# Altium schematic symbol library Microver.SchLib: 988 symbols (part 12 of 17)
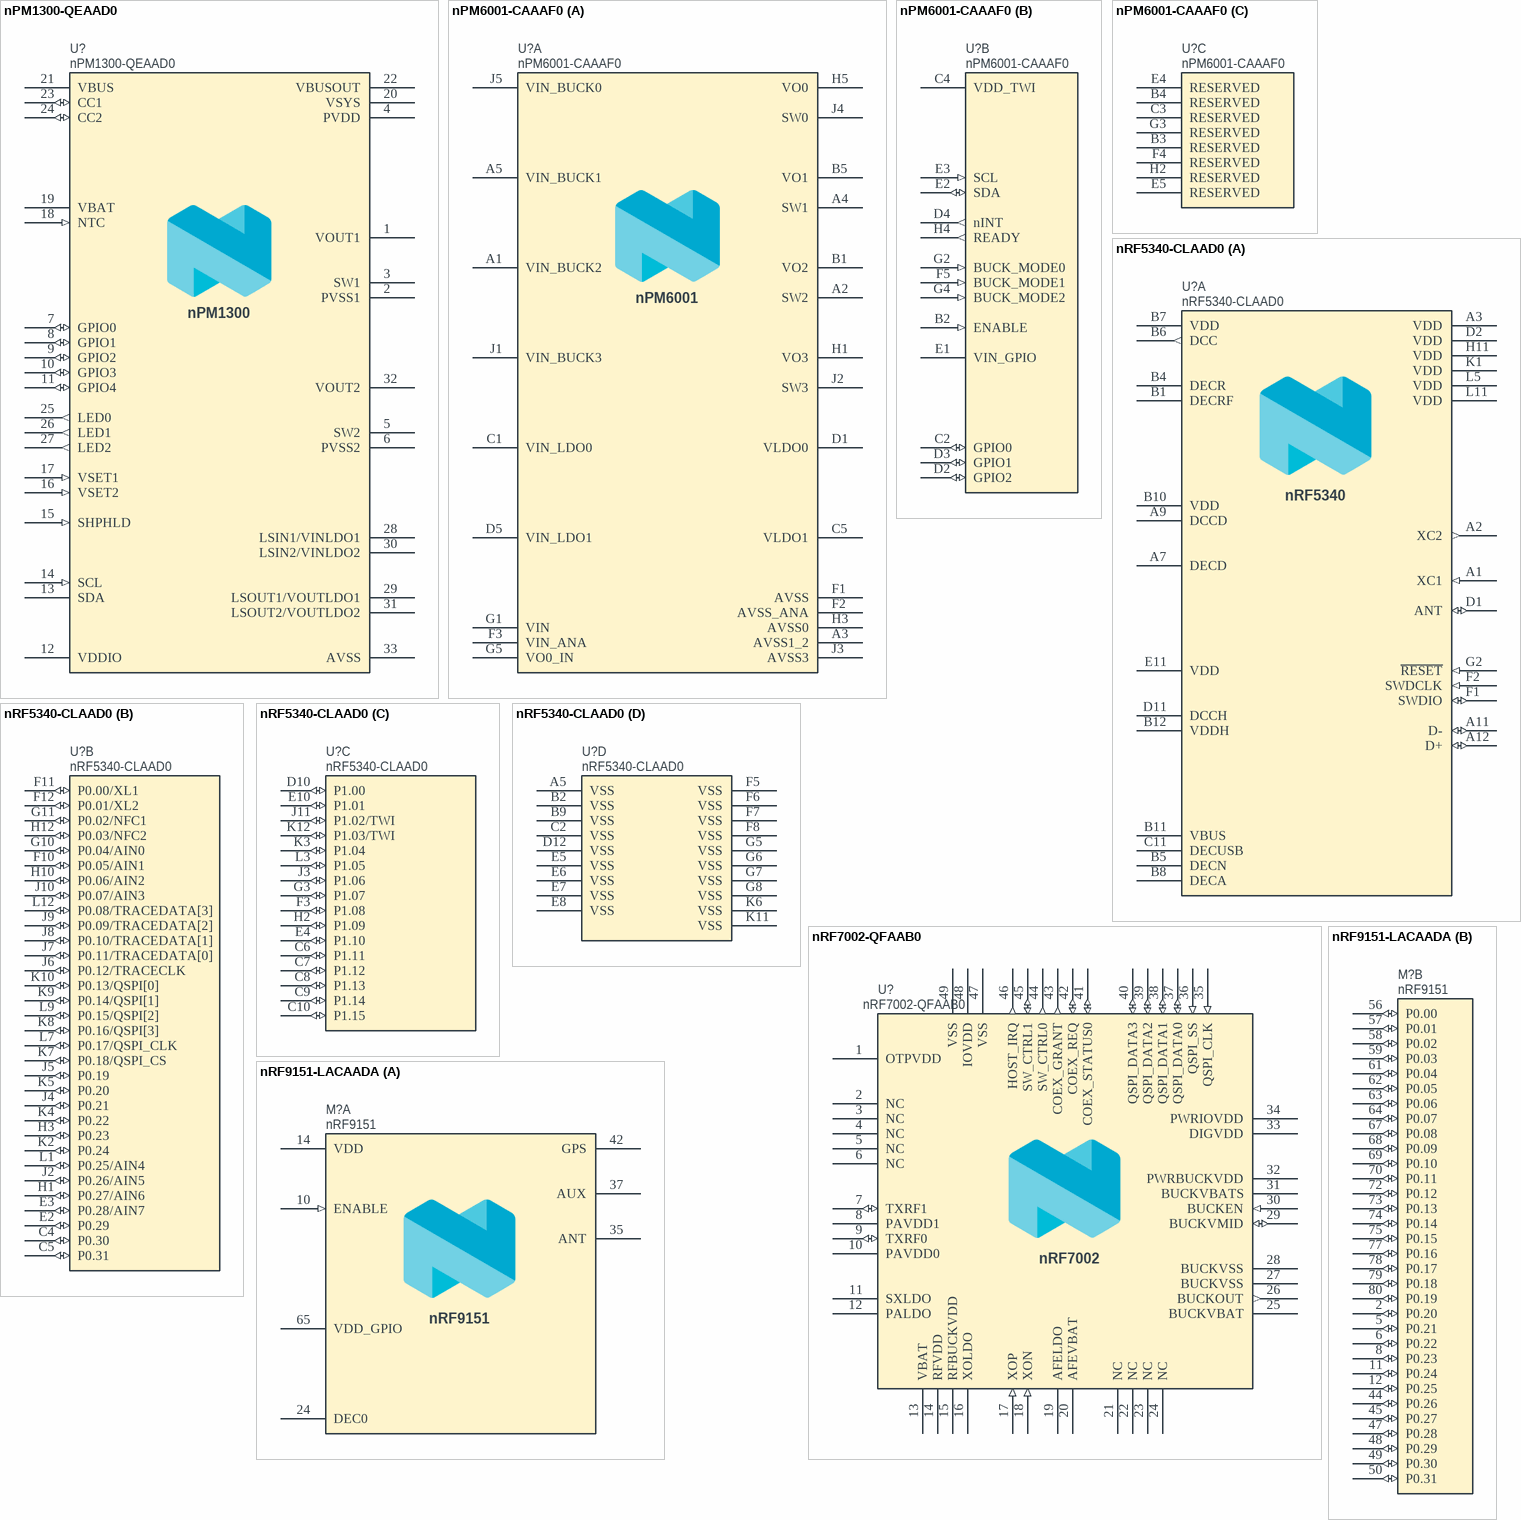
[diagram p40: symbols nPM1300-QEAAD0 to nRF9151-LACAADA]

## nRF5340-CLAAD0
designator U?
Multi-protocol Bluetooth Low Energy, IEEE 802.15.4, ANT and 2.4GHz proprietary system-on-chip; Manufacturer: Nordic Semiconductor; Part number NEMS: 102000319; Pad Count: 95; Note: N.A.; Component Status: Active; Part Number: nRF5340-CLAAD0; Footprint Doc: WLCSP-95; Value: nRF5340-CLAAD0; Component Class: Nordic_Devices; Author: rubr; PartId: 102000319; Manufacturer Part Number: nRF5340-CLAAD0; ComponentLink1URL: N.A.; ComponentLink1Description: Datasheet; ComponentLink2URL: N.A.; ComponentLink2Description: Supplier link; HelpURL: N.A.; LatestRevisionDate: 2024-01-22; Published: 2024-01-22; Supplier 1: Nordic Semiconductor; Supplier Part Number 1: nRF5340-CLAAD0; Supplier 2: N.A.; Supplier Part Number 2: N.A.; Artikkelnr Noca: N.A.; Part number IPS: N.A.; Part number Norautron: N.A.
footprint BGA95C35P12X11_437X397X50
part A pins: A1 XC1 (in), A2 XC2 (out), A3 VDD (power), A7 DECD (power), A9 DCCD (power), A11 D- (io), A12 D+ (io), B1 DECRF (power), B4 DECR (power), B5 DECN (power), B6 DCC (out), B7 VDD (power), B8 DECA (power), B10 VDD (power), B11 VBUS (power), B12 VDDH (power), C11 DECUSB (power), D1 ANT (io), D2 VDD (power), D11 DCCH (power), E11 VDD (power), F1 SWDIO (io), F2 SWDCLK (in), G2 ~{RESET} (in), H11 VDD (power), K1 VDD (power), L5 VDD (power), L11 VDD (power)
part B pins: C4 P0.30 (io), C5 P0.31 (io), E2 P0.29 (io), E3 P0.28/AIN7 (io), F10 P0.05/AIN1 (io), F11 P0.00/XL1 (io), F12 P0.01/XL2 (io), G10 P0.04/AIN0 (io), G11 P0.02/NFC1 (io), H1 P0.27/AIN6 (io), H3 P0.23 (io), H10 P0.06/AIN2 (io), H12 P0.03/NFC2 (io), J2 P0.26/AIN5 (io), J4 P0.21 (io), J5 P0.19 (io), J6 P0.12/TRACECLK (io), J7 P0.11/TRACEDATA[0] (io), J8 P0.10/TRACEDATA[1] (io), J9 P0.09/TRACEDATA[2] (io), J10 P0.07/AIN3 (io), K2 P0.24 (io), K4 P0.22 (io), K5 P0.20 (io), K7 P0.18/QSPI_CS (io), K8 P0.16/QSPI[3] (io), K9 P0.14/QSPI[1] (io), K10 P0.13/QSPI[0] (io), L1 P0.25/AIN4 (io), L7 P0.17/QSPI_CLK (io), L9 P0.15/QSPI[2] (io), L12 P0.08/TRACEDATA[3] (io)
part C pins: C6 P1.11 (io), C7 P1.12 (io), C8 P1.13 (io), C9 P1.14 (io), C10 P1.15 (io), D10 P1.00 (io), E4 P1.10 (io), E10 P1.01 (io), F3 P1.08 (io), G3 P1.07 (io), H2 P1.09 (io), J3 P1.06 (io), J11 P1.02/TWI (io), K3 P1.04 (io), K12 P1.03/TWI (io), L3 P1.05 (io)
part D pins: A5 VSS (power), B2 VSS (power), B9 VSS (power), C2 VSS (power), D12 VSS (power), E5 VSS (power), E6 VSS (power), E7 VSS (power), E8 VSS (power), F5 VSS (power), F6 VSS (power), F7 VSS (power), F8 VSS (power), G5 VSS (power), G6 VSS (power), G7 VSS (power), G8 VSS (power), K6 VSS (power), K11 VSS (power)
part A text: nRF5340

## nRF7002-QFAAB0
designator U?
Wi-fi Dual Band Companion chip; Manufacturer: Nordic Semiconductor; Part number NEMS: 102000276; Pad Count: 49; Note: N.A.; Component Status: Active; Part Number: nRF7002-QFAAB0; Component Class: Nordic_Devices; Author: hany; Manufacturer Part Number: nRF7002-QFAAB0; ComponentLink1URL: N.A.; ComponentLink1Description: Datasheet; ComponentLink2URL: N.A.; ComponentLink2Description: Supplier link; HelpURL: N.A.; Footprint Doc: QFN-48; LatestRevisionDate: 2023-01-11; Published: 2023-01-11; Value: nRF7002-QFAA; Supplier 1: Nordic Semiconductor; Supplier Part Number 1: nRF7002-QFAAB0; Supplier 2: N.A.; Supplier Part Number 2: N.A.; Artikkelnr Noca: N.A.; Part number IPS: N.A.; Part number Norautron: N.A.; PartId: 102000276
footprint QFN40P600X600X60-48N
pins: 1 OTPVDD (power) "OTP write mode supply,  (2.25-2.75V)", 2 NC, 3 NC, 4 NC, 5 NC, 6 NC, 7 TXRF1 (io) "RF INOUT ,", 8 PAVDD1 (power) "Supply ,  (3.3V)", 9 TXRF0 (io) "RF INOUT ,", 10 PAVDD0 (power) "Supply ,  (3.3V)", 11 SXLDO (power) "Supply ,  (1.2V)", 12 PALDO (power) "Supply ,  (3.3V)", 13 VBAT (power) "Supply ,  (2.5-4.5V)", 14 RFVDD (power) "Supply ,  (1.8V)", 15 RFBUCKVDD (power) "Supply ,  (1.5V)", 16 XOLDO (power) "Supply ,  (1.2V)", 17 XOP (in) "40MHz crystal ,", 18 XON (in) "40MHz crystal ,", 19 AFELDO (power) "Supply ,  (1.8V)", 20 AFEVBAT (power) "Supply ,  (2.5-4.5V)", 21 NC, 22 NC, 23 NC, 24 NC, 25 BUCKVBAT (power) "Supply ,  (2.5-4.5V)", 26 BUCKOUT (out) "DCDC output", 27 BUCKVSS (power) "DCDC GND", 28 BUCKVSS (power) "DCDC GND", 29 BUCKVMID (io) "Voltage reference decoupling pin ,", 30 BUCKEN (in) "PWR IP enable pin ,", 31 BUCKVBATS (power) "Supply ,  (2.5-4.5V)", 32 PWRBUCKVDD (power) "Supply ,  (1.5V)", 33 DIGVDD (power) "Supply ,  (1.1V)", 34 PWRIOVDD (power) "internal IO supply, may be used for OTP read,  (1.8-3.3 V)", 35 QSPI_CLK (in) "QSPI Clock", 36 QSPI_SS (in) "QSPI  Slave select", 37 QSPI_DATA0 (io) "QSPI data 0/MOSI", 38 QSPI_DATA1 (io) "QSPI data 1/MISO", 39 QSPI_DATA2 (io) "QSPI data 2/NC", 40 QSPI_DATA3 (io) "QSPI data 3/NC", 41 COEX_STATUS0 (io) "Coex interface, DIGMON1 (O) / GPIO1 (O)", 42 COEX_REQ (io) "Coex interface, DIGMON0 (O) / GPIO0 (O)", 43 COEX_GRANT (out) "Coex interface, GPIO2 (O)", 44 SW_CTRL0 (out) "external switch control , GPIO3 (O)", 45 SW_CTRL1 (io) "external switch control , GPIO4 (O) / BT_COEX_STATUS1 (I)", 46 HOST_IRQ (out) "Host processor interrupt request , GPIO5 (O)", 47 VSS "Connect to GND", 48 IOVDD (power) "IO supply ,  (1.8-3.3 V)", 49 VSS (power) "Center Pad"
text: nRF7002

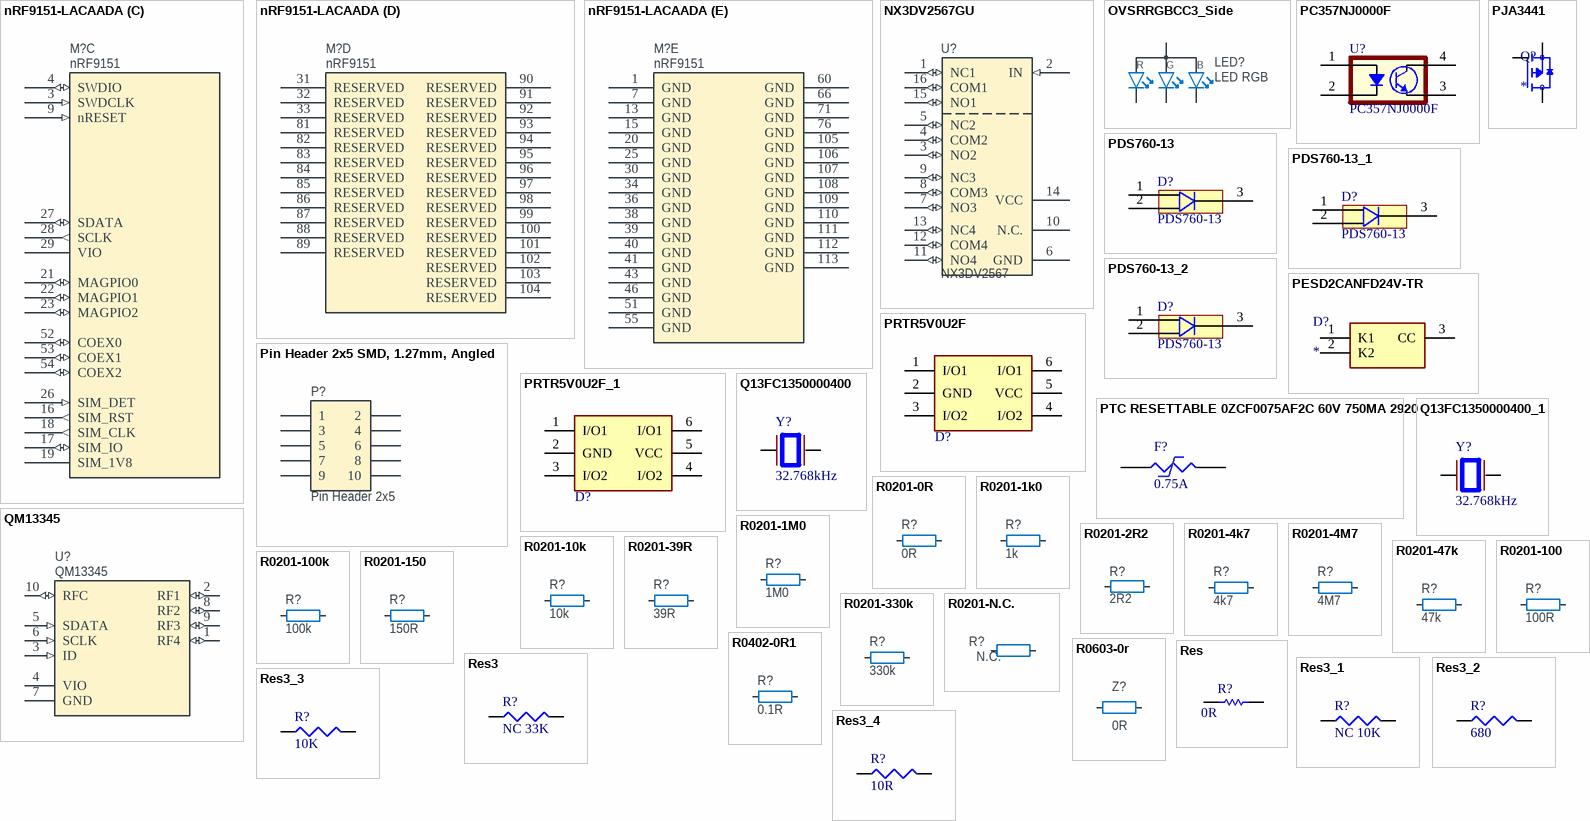
[diagram p22: symbols nRF9151-LACAADA to Res3_4]

## nRF9151-LACAADA
designator M?, comment nRF9151
Low power System-in-Package with integrated LTE-M/NB-IoT modem and GPS; Part Number: nRF9151-LACAADA; Manufacturer: Nordic Semiconductor; Part number NEMS: 102000324; Component Status: Active; Pad Count: 113; Value: nRF9151-LACAADA; Note: N.A.; PartId: 102000324; Component Class: Nordic_Devices; Author: kod1; Manufacturer Part Number: nRF9151-LACAADA; ComponentLink1URL: N.A.; ComponentLink1Description: Datasheet; ComponentLink2URL: N.A.; ComponentLink2Description: Supplier link; HelpURL: N.A.; LatestRevisionDate: 2024-04-02; Published: 2024-03-25; Footprint Doc: LGA-113; Supplier 1: Nordic Semiconductor; Supplier Part Number 1: nRF9151-LACAADA; Supplier 2: N.A.; Supplier Part Number 2: N.A.; Artikkelnr Noca: N.A.; Part number IPS: N.A.; Part number Norautron: N.A.
footprint LGA50P1210X1110X130-113N - 98A0113SP002-O01
part A pins: 10 ENABLE (in), 14 VDD (power), 24 DEC0, 35 ANT, 37 AUX, 42 GPS, 65 VDD_GPIO (power)
part B pins: 2 P0.20 (io), 5 P0.21 (io), 6 P0.22 (io), 8 P0.23 (io), 11 P0.24 (io), 12 P0.25 (io), 44 P0.26 (io), 45 P0.27 (io), 47 P0.28 (io), 48 P0.29 (io), 49 P0.30 (io), 50 P0.31 (io), 56 P0.00 (io), 57 P0.01 (io), 58 P0.02 (io), 59 P0.03 (io), 61 P0.04 (io), 62 P0.05 (io), 63 P0.06 (io), 64 P0.07 (io), 67 P0.08 (io), 68 P0.09 (io), 69 P0.10 (io), 70 P0.11 (io), 72 P0.12 (io), 73 P0.13 (io), 74 P0.14 (io), 75 P0.15 (io), 77 P0.16 (io), 78 P0.17 (io), 79 P0.18 (io), 80 P0.19 (io)
part C pins: 3 SWDCLK (in), 4 SWDIO (io), 9 nRESET (in), 16 SIM_RST (out), 17 SIM_IO (io), 18 SIM_CLK (out), 19 SIM_1V8 (power), 21 MAGPIO0 (io), 22 MAGPIO1 (io), 23 MAGPIO2 (io), 26 SIM_DET (in), 27 SDATA (io), 28 SCLK (out), 29 VIO, 52 COEX0 (io), 53 COEX1 (io), 54 COEX2 (io)
part D pins: 31 RESERVED, 32 RESERVED, 33 RESERVED, 81 RESERVED, 82 RESERVED, 83 RESERVED, 84 RESERVED, 85 RESERVED, 86 RESERVED, 87 RESERVED, 88 RESERVED, 89 RESERVED, 90 RESERVED, 91 RESERVED, 92 RESERVED, 93 RESERVED, 94 RESERVED, 95 RESERVED, 96 RESERVED, 97 RESERVED, 98 RESERVED, 99 RESERVED, 100 RESERVED, 101 RESERVED, 102 RESERVED, 103 RESERVED, 104 RESERVED
part E pins: 1 GND, 7 GND, 13 GND, 15 GND, 20 GND, 25 GND, 30 GND, 34 GND, 36 GND, 38 GND, 39 GND, 40 GND, 41 GND, 43 GND, 46 GND, 51 GND, 55 GND, 60 GND, 66 GND, 71 GND, 76 GND, 105 GND, 106 GND, 107 GND, 108 GND, 109 GND, 110 GND, 111 GND, 112 GND, 113 GND

## NX3DV2567GU
designator U?, comment NX3DV2567
Low-ohmic four-pole double-throw analog switch; Part Number: NX3DV2567GU; Manufacturer: NXP Semiconductors; Part number IPS: 00000007816; Part number NEMS: 101900290; Note: N.A.; Artikkelnr Noca: 15079317; Pad Count: 16; Component Status: Active; Manufacturer Part Number: NX3DV2567GU; Footprint Doc: XQFN-16; LatestRevisionDate: 2015-02-17; Published: 2015-02-17; Value: NX3DV2567; ComponentLink1URL: N.A.; ComponentLink1Description: Datasheet; ComponentLink2URL: N.A.; ComponentLink2Description: Supplier link; HelpURL: http://www.nxp.com/documents/data_sheet/NX3DV2567.pdf; Supplier 1: Digi-Key; Supplier Part Number 1: 568-5206-1-ND; Supplier 2: Mouser; Supplier Part Number 2: 771-NX3DV2567GU115; PartId: 101900290; Component Class: Misc_ICs; Author: rsk; Part number Norautron: N.A.
footprint XQFN40P180X260X50-16N
pins: 1 NC1 (io), 2 IN (in), 3 NO2 (io), 4 COM2 (io), 5 NC2 (io), 6 GND (power), 7 NO3 (io), 8 COM3 (io), 9 NC3 (io), 10 N.C., 11 NO4 (io), 12 COM4 (io), 13 NC4 (io), 14 VCC (power), 15 NO1 (io), 16 COM1 (io)
3 alternate drawings of the same symbol

## OVSRRGBCC3_Side
designator LED?, comment LED RGB
Optek, Side mounted RGB 1204 SMD LED; Part Number: OVSRRGBCC3_Side; Manufacturer Part Number: OVSRRGBCC3; Part number NEMS: 101400026; Pad Count: 4; Artikkelnr Noca: N.A.; Component Status: Active; PartId: 101400026; Component Class: Optoelectronics; Author: rsk; Manufacturer: Optek; ComponentLink1URL: http://www.ttelectronics.com/sites/default/files/download-files/Datasheet_OVSRRGBCC3%20Issue%20G.pdf; ComponentLink1Description: Datasheet; ComponentLink2URL: https://www.digikey.no/product-detail/en/tt-electronics-optek-technology/OVSRRGBCC3TM/365-1981-1-ND/5147364; ComponentLink2Description: Supplier link; HelpURL: http://no.farnell.com/optek-technology/ovsrrgbcc3tm/led-dome-rgb-smd/dp/2428398?CMP=GRHB-OCTOPART; Footprint Doc: 1204; LatestRevisionDate: 2018-07-23; Published: 2009-09-11; Value: LED RGB; Note: Side mounted; Supplier 1: Digi-Key; Supplier Part Number 1: 365-1410-1-ND; Supplier 2: Farnell; Supplier Part Number 2: 167-8707; Part number IPS: N.A.; Part number Norautron: N.A.
footprint OVSRRGBCC3_Side
pins: 1 C_RED, 2 C_GREEN, 3 C_BLUE, 4 A
text: R; G; B

## PC357NJ0000F
designator U?
Manufacturer: Socle Technology; Supplier 1: Digi-Key; Manufacturer Part Number: PC357NJ0000F; RoHS: No; Stock 1: 22388; Pricing 1: 1=0,83000, 10=0,53800, 100=0,35270, 1000=0,27841 (USD); Supplier Part Number 1: 1855-1023-1-ND
footprint SOIC_1TJ00F_SHP
pins: 1, 2, 3, 4

## PDS760-13
designator D?, comment Manufacturer Part Number: PDS760-13  (hidden comment: DIODE SCHOTTKY 60V 7A POWERDI5)
Diode 60 V 7A Surface Mount PowerDI™ 5; Order Code: Digi: PDS760DITR-ND; LCSC Manufacturer Part Number: PDS760-13; LCSC Part Number: C96113
footprint POWERDI5
pins: 1 LEFT_PIN, 2 RIGHT_PIN, 3 BOTTOMSIDE_HEAT_SINK

## PDS760-13_1
designator D?, comment Manufacturer Part Number: PDS760-13  (hidden comment: DIODE SCHOTTKY 60V 7A POWERDI5)
Diode 60 V 7A Surface Mount PowerDI™ 5; Order Code: Digi: PDS760DITR-ND; LCSC Manufacturer Part Number: PDS760-13; LCSC Part Number: C96113
footprint POWERDI5
pins: 1 LEFT_PIN, 2 RIGHT_PIN, 3 BOTTOMSIDE_HEAT_SINK

## PDS760-13_2
designator D?, comment Manufacturer Part Number: PDS760-13  (hidden comment: DIODE SCHOTTKY 60V 7A POWERDI5)
Diode 60 V 7A Surface Mount PowerDI™ 5; Order Code: Digi: PDS760DITR-ND; LCSC Manufacturer Part Number: PDS760-13; LCSC Part Number: C96113
footprint POWERDI5
pins: 1 LEFT_PIN, 2 RIGHT_PIN, 3 BOTTOMSIDE_HEAT_SINK

## PESD2CANFD24V-TR
designator D?
TVS Diode (Bi-directional); Manufacturer_Name: Nexperia; Manufacturer_Part_Number: PESD2CANFD24V-TR; Datasheet Link: https://assets.nexperia.com/documents/data-sheet/PESD2CANFD24V-T.pdf; Height: 1.1mm; Mouser Part Number: 771-PESD2CANFD24V-TR; Mouser Price/Stock: https://www.mouser.co.uk/ProductDetail/Nexperia/PESD2CANFD24V-TR?qs=xZ%2FP%252Ba9zWqbW0qDIUI%252BQ%2FA%3D%3D; Arrow Part Number: PESD2CANFD24V-TR; Arrow Price/Stock: https://www.arrow.com/en/products/pesd2canfd24v-tr/nexperia?region=nac
footprint SOT95P230X110-3N
pins: 1 K1, 2 K2, 3 CC

## Pin Header 2x5 SMD, 1.27mm, Angled
designator P?, comment Pin Header 2x5
Pin Header 2x5, 1.27mm (50mil); Part Number: Pin Header 2x5 SMD, 1.27mm, Angled; Manufacturer: WCON; Manufacturer Part Number: 1325B-1205S0Z080CR04; Part number NEMS: 100500257; Note: (Replaced 1325B-1205S0Z080CR02); Artikkelnr Noca: N.A.; Pad Count: 10; Component Status: Active; System: Connector; LatestRevisionDate: 2024-02-02; Published: 2014-01-22; Value: Pin Header 2x5; Footprint Doc: HDR_2x5-SMD-1.27mm-ANG; Part number IPS: N.A.; ComponentLink1URL: N.A.; ComponentLink1Description: Datasheet; ComponentLink2URL: N.A.; ComponentLink2Description: Supplier link; HelpURL: \\hizz\pro\app9717\Datasheet\connectors\W-CON\1325B-12XXXXZXXXCXXX.pdf; Supplier 1: Cabcon; Supplier Part Number 1: 1325B-1205S0Z080CR04; Supplier 2: N.A.; Supplier Part Number 2: N.A.; Author: rsk; Component Class: Connectors; PartId: 100500257; Part number Norautron: N.A.
footprint HDR_2x5-SMD-1.27mm-ANG
pins: 1, 2, 3, 4, 5, 6, 7, 8, 9, 10

## PJA3441
designator Q?
P-Channel 20 V 1.5A (Ta) 350mW (Ta) Surface Mount SOT-323; MF: Diodes Inc.; MP: DMP2160UW-7; Value: *; Check_prices: https://www.snapeda.com/parts/DMP2160UW-7/Diodes+Inc./view-part/?ref=eda; Availability: In Stock; Price: None; Package: SOT-323 Diodes Inc.; Purchase-URL: https://pricing.snapeda.com/search/part/DMP2160UW-7/?ref=eda; SnapEDA_Link: https://www.snapeda.com/parts/DMP2160UW-7/Diodes+Inc./view-part/?ref=snap
footprint TRANS_DMP2160UW-7
pins: 1 G, 2 S, 3 D

## PRTR5V0U2F
designator D?, comment SON-6(1x1.5) ESD Protection Devices ROHS  (value not drawn)
Manufacturer Part Number: PRTR5V0U2F; Order Code: LCSC: C2937001; LCSC Manufacturer Part Number: PRTR5V0U2F; LCSC Part Number: C2937001
footprint Nexperia_SOT886_MFG
pins: 1 I/O1, 2 GND (power), 3 I/O2, 4 I/O2, 5 VCC (power), 6 I/O1

## PRTR5V0U2F_1
designator D?, comment SON-6(1x1.5) ESD Protection Devices ROHS  (value not drawn)
Manufacturer Part Number: PRTR5V0U2F; Order Code: LCSC: C2937001; LCSC Manufacturer Part Number: PRTR5V0U2F; LCSC Part Number: C2937001
footprint Nexperia_SOT886_MFG
pins: 1 I/O1, 2 GND (power), 3 I/O2, 4 I/O2, 5 VCC (power), 6 I/O1

## PTC RESETTABLE 0ZCF0075AF2C 60V 750MA 2920
designator F?  value 0.75A  (hidden comment: PTC RESETTABLE 0ZCF0075AF2C 60V 750MA 2920)
Manufacturer: FUZETEC; Manufacturer Part Name: FSMD075-60-2920-R; Package Reference: 2920; Supplier: Ozdisan; Supplier No: FSMD075-60-2920-R
footprint 0ZCF_FUSE
pins: 1, 2

## Q13FC1350000400
designator Y?, comment value 32.768kHz  (hidden comment: SEIKO 3215 32.768kHz CRSYTAL)
32.768kHz 12.5pF ±20ppm SMD3215-2P Crystals ROHS; Manufacturer Part Number: Q13FC1350000400; Order Code: LCSC: C32346; LCSC Manufacturer Part Number: Q13FC1350000400; LCSC Part Number: C32346
footprint XTAL_ABS07-32.768KHZ-T
pins: 1, 2

## Q13FC1350000400_1
designator Y?, comment value 32.768kHz  (hidden comment: SEIKO 3215 32.768kHz CRSYTAL)
32.768kHz 12.5pF ±20ppm SMD3215-2P Crystals ROHS; Manufacturer Part Number: Q13FC1350000400; Order Code: LCSC: C32346; LCSC Manufacturer Part Number: Q13FC1350000400; LCSC Part Number: C32346
footprint XTAL_ABS07-32.768KHZ-T
pins: 1, 2

## QM13345
designator U?
SP4T RF Switch with RFFE Interface; Manufacturer: Qorvo; Part number NEMS: 101900679; Pad Count: 10; Note: N.A.; Component Status: Active; Part Number: QM13345; Component Class: Misc_ICs; Author: rubr; Manufacturer Part Number: QM13345; ComponentLink1URL: \\hizz\pro\app9717\Datasheet\integated circuits\qorvo\QM13345 Datasheet.pdf; ComponentLink1Description: Datasheet; ComponentLink2URL: N.A.; ComponentLink2Description: Supplier link; HelpURL: N.A.; Footprint Doc: UFQFN-10; LatestRevisionDate: 2021-12-10; Published: 2021-12-10; Value: QM13345; Supplier 1: N.A.; Supplier Part Number 1: N.A.; Supplier 2: N.A.; Supplier Part Number 2: N.A.; Artikkelnr Noca: N.A.; Part number IPS: N.A.; Part number Norautron: N.A.; PartId: 101900679
footprint PQFN40P110X150X50-10N
pins: 1 RF4 (io), 2 RF1 (io), 3 ID (in), 4 VIO (power), 5 SDATA (in), 6 SCLK (in), 7 GND (power), 8 RF2 (io), 9 RF3 (io), 10 RFC (io)

## R0201-0R
designator R?, comment 0R
Resistor, ±5%, 0.05W; Part Number: R0201-0R; Manufacturer: N.A.; Part number IPS: 00000003245; Part number NEMS: 100100001; Pad Count: 2; Note: Chip Res 5%; Component Status: Active; Footprint Doc: 0201; Value: 0R; Component Class: Resistors; Author: rsk; PartId: 100100001; Manufacturer Part Number: N.A.; ComponentLink1URL: N.A.; ComponentLink1Description: Datasheet; ComponentLink2URL: N.A.; ComponentLink2Description: Supplier link; HelpURL: N.A.; LatestRevisionDate: 2017-11-09; Published: 2014-11-13; Supplier 1: N.A.; Supplier Part Number 1: N.A.; Supplier 2: N.A.; Supplier Part Number 2: N.A.; Artikkelnr Noca: N.A.; Part number Norautron: N.A.
footprint RESC0603X03L_C
pins: 1, 2

## R0201-1k0
designator R?, comment 1k
Resistor, ±1%, 0.05W; Part Number: R0201-1k0; Manufacturer: N.A.; Part number IPS: 00000005786; Part number NEMS: 100100043; Note: Chip Res 1%; Pad Count: 2; Component Status: Active; Manufacturer Part Number: N.A.; ComponentLink1URL: N.A.; ComponentLink1Description: Datasheet; ComponentLink2URL: N.A.; ComponentLink2Description: Supplier link; HelpURL: N.A.; Footprint Doc: 0201; LatestRevisionDate: 2014-11-13; Published: 2014-11-13; Value: 1k; Artikkelnr Noca: N.A.; Supplier 1: N.A.; Supplier Part Number 1: N.A.; Supplier 2: N.A.; Supplier Part Number 2: N.A.; Component Class: Resistors; PartId: 100100043; Author: rsk; Part number Norautron: N.A.
footprint RESC0603X03L_C
pins: 1, 2

## R0201-1M0
designator R?, comment 1M0
Resistor, ±1%, 0.05W; Part Number: R0201-1M0; Manufacturer: N.A.; Part number IPS: 00000001418; Part number Norautron: 26107108; Part number NEMS: 100100093; Note: Chip Res 1%; Pad Count: 2; Component Status: Active; Manufacturer Part Number: N.A.; ComponentLink1URL: N.A.; ComponentLink1Description: Datasheet; ComponentLink2URL: N.A.; ComponentLink2Description: Supplier link; HelpURL: N.A.; Footprint Doc: 0201; LatestRevisionDate: 2014-11-13; Published: 2014-11-13; Value: 1M0; Supplier 1: N.A.; Supplier Part Number 1: N.A.; Supplier 2: N.A.; Supplier Part Number 2: N.A.; Artikkelnr Noca: N.A.; PartId: 100100093; Component Class: Resistors; Author: rsk
footprint RESC0603X03L_C
pins: 1, 2

## R0201-2R2
designator R?, comment 2R2
Resistor, ±1%, 0.05W; Part Number: R0201-2R2; Part number Norautron: 26470029; Part number NEMS: 100100006; Pad Count: 2; Artikkelnr Noca: N.A.; Note: Chip Res 1%; Component Status: Active; Footprint Doc: 0201; Value: 2R2; Component Class: Resistors; Author: rsk; ComponentLink1Description: Datasheet; ComponentLink1URL: N.A.; ComponentLink2Description: Supplier link; ComponentLink2URL: N.A.; HelpURL: N.A.; LatestRevisionDate: 2014-11-13; Manufacturer: N.A.; Manufacturer Part Number: N.A.; PartId: 100100006; Part number IPS: N.A.; Published: 2014-11-13; Supplier 1: N.A.; Supplier 2: N.A.; Supplier Part Number 1: N.A.; Supplier Part Number 2: N.A.
footprint RESC0603X03L_C
pins: 1, 2

## R0201-4k7
designator R?, comment 4k7
Resistor, ±1%, 0.05W; Part Number: R0201-4k7; Manufacturer: N.A.; Part number IPS: 00000001706; Part number NEMS: 100100061; Note: Chip Res 1%; Pad Count: 2; Component Status: Active; Manufacturer Part Number: N.A.; Footprint Doc: 0201; LatestRevisionDate: 2014-11-13; Published: 2014-11-13; Value: 4k7; Artikkelnr Noca: N.A.; ComponentLink1URL: N.A.; ComponentLink1Description: Datasheet; ComponentLink2URL: N.A.; ComponentLink2Description: Supplier link; HelpURL: N.A.; Supplier 1: N.A.; Supplier Part Number 1: N.A.; Supplier 2: N.A.; Supplier Part Number 2: N.A.; Author: rsk; Component Class: Resistors; PartId: 100100061; Part number Norautron: N.A.
footprint RESC0603X03L_C
pins: 1, 2

## R0201-4M7
designator R?, comment 4M7
Resistor, ±1%, 0.05W; Part Number: R0201-4M7; Manufacturer: N.A.; Part number NEMS: 100100101; Note: Chip Res 1%; Pad Count: 2; Component Status: Active; Manufacturer Part Number: N.A.; ComponentLink1URL: N.A.; ComponentLink1Description: Datasheet; ComponentLink2URL: N.A.; ComponentLink2Description: Supplier link; HelpURL: N.A.; Footprint Doc: 0201; LatestRevisionDate: 2014-11-13; Published: 2014-11-13; Value: 4M7; Artikkelnr Noca: N.A.; Part number IPS: N.A.; Supplier 1: N.A.; Supplier Part Number 1: N.A.; Supplier 2: N.A.; Supplier Part Number 2: N.A.; Component Class: Resistors; PartId: 100100101; Author: rsk; Part number Norautron: N.A.
footprint RESC0603X03L_C
pins: 1, 2

## R0201-10k
designator R?, comment 10k
Resistor, ±1%, 0.05W; Part Number: R0201-10k; Manufacturer: N.A.; Part number IPS: 00000001255; Part number Norautron: 26107101; Part number NEMS: 100100065; Note: Chip Res 1%; Pad Count: 2; Component Status: Active; Manufacturer Part Number: N.A.; ComponentLink1URL: N.A.; ComponentLink1Description: Datasheet; ComponentLink2URL: N.A.; ComponentLink2Description: Supplier link; HelpURL: N.A.; Footprint Doc: 0201; LatestRevisionDate: 2014-11-13; Published: 2014-11-13; Value: 10k; Artikkelnr Noca: N.A.; Supplier 1: N.A.; Supplier Part Number 1: N.A.; Supplier 2: N.A.; Supplier Part Number 2: N.A.; PartId: 100100065; Component Class: Resistors; Author: rsk
footprint RESC0603X03L_C
pins: 1, 2

## R0201-39R
designator R?, comment 39R
Resistor, ±1%, 0.05W; Part Number: R0201-39R; Manufacturer: N.A.; Part number IPS: 00000001704; Part number NEMS: 100100021; Note: Chip Res 1%; Pad Count: 2; Component Status: Active; Manufacturer Part Number: N.A.; LatestRevisionDate: 2014-11-13; Published: 2014-11-13; Value: 39R; Artikkelnr Noca: N.A.; Footprint Doc: 0201; ComponentLink1URL: N.A.; ComponentLink1Description: Datasheet; ComponentLink2URL: N.A.; ComponentLink2Description: Supplier link; HelpURL: N.A.; Supplier 1: N.A.; Supplier Part Number 1: N.A.; Supplier 2: N.A.; Supplier Part Number 2: N.A.; Author: rsk; Component Class: Resistors; PartId: 100100021; Part number Norautron: N.A.
footprint RESC0603X03L_C
pins: 1, 2

## R0201-47k
designator R?, comment 47k
Resistor, ±1%, 0.05W; Part Number: R0201-47k; Manufacturer: N.A.; Part number IPS: 00000001423; Part number NEMS: 100100076; Component Status: Active; Pad Count: 2; Note: Chip Res 1%; PartId: 100100076; Component Class: Resistors; Author: rsk; Manufacturer Part Number: N.A.; ComponentLink1URL: N.A.; ComponentLink1Description: Datasheet; ComponentLink2URL: N.A.; ComponentLink2Description: Supplier link; HelpURL: N.A.; LatestRevisionDate: 2014-11-13; Published: 2014-11-13; Footprint Doc: 0201; Value: 47k; Supplier 1: N.A.; Supplier Part Number 1: N.A.; Supplier 2: N.A.; Supplier Part Number 2: N.A.; Artikkelnr Noca: N.A.; Part number Norautron: N.A.
footprint RESC0603X03L_C
pins: 1, 2

## R0201-100
designator R?, comment 100R
Resistor, ±1%, 0.05W; Part Number: R0201-100; Manufacturer: N.A.; Part number IPS: 00000001794; Part number Norautron: 26107004; Part number NEMS: 100100027; Note: Chip Res 1%; Pad Count: 2; Component Status: Active; Manufacturer Part Number: N.A.; LatestRevisionDate: 2014-11-13; Published: 2014-11-13; Value: 100R; Artikkelnr Noca: N.A.; Footprint Doc: 0201; ComponentLink1URL: N.A.; ComponentLink1Description: Datasheet; ComponentLink2URL: N.A.; ComponentLink2Description: Supplier link; HelpURL: N.A.; Supplier 1: N.A.; Supplier Part Number 1: N.A.; Supplier 2: N.A.; Supplier Part Number 2: N.A.; Author: rsk; Component Class: Resistors; PartId: 100100027
footprint RESC0603X03L_C
pins: 1, 2

## R0201-100k
designator R?, comment 100k
Resistor, ±1%, 0.05W; Part Number: R0201-100k; Manufacturer: N.A.; Part number IPS: 00000001419; Part number Norautron: 26108487; Part number NEMS: 100100080; Note: Chip Res 1%; Pad Count: 2; Component Status: Active; Manufacturer Part Number: N.A.; ComponentLink1URL: N.A.; ComponentLink1Description: Datasheet; ComponentLink2URL: N.A.; ComponentLink2Description: Supplier link; HelpURL: N.A.; Footprint Doc: 0201; LatestRevisionDate: 2014-11-13; Published: 2014-11-13; Value: 100k; Supplier 1: N.A.; Supplier Part Number 1: N.A.; Supplier 2: N.A.; Supplier Part Number 2: N.A.; Artikkelnr Noca: N.A.; PartId: 100100080; Component Class: Resistors; Author: rsk
footprint RESC0603X03L_C
pins: 1, 2

## R0201-150
designator R?, comment 150R
Resistor, ±1%, 0.05W; Part Number: R0201-150; Manufacturer: N.A.; Part number IPS: 00000001420; Part number NEMS: 100100029; Note: Chip Res 1%; Pad Count: 2; Component Status: Active; Manufacturer Part Number: N.A.; ComponentLink1URL: N.A.; ComponentLink1Description: Datasheet; ComponentLink2URL: N.A.; ComponentLink2Description: Supplier link; HelpURL: N.A.; Footprint Doc: 0201; LatestRevisionDate: 2014-11-13; Published: 2014-11-13; Value: 150R; Artikkelnr Noca: N.A.; Supplier 1: N.A.; Supplier Part Number 1: N.A.; Supplier 2: N.A.; Supplier Part Number 2: N.A.; PartId: 100100029; Component Class: Resistors; Author: rsk; Part number Norautron: N.A.
footprint RESC0603X03L_C
pins: 1, 2

## R0201-330k
designator R?, comment 330k
Resistor, ±1%, 0.05W; Part Number: R0201-330k; Manufacturer: N.A.; Part number IPS: 00000001424; Part number NEMS: 100100087; Component Status: Active; Pad Count: 2; Note: Chip Res 1%; PartId: 100100087; Component Class: Resistors; Author: rsk; Manufacturer Part Number: N.A.; ComponentLink1URL: N.A.; ComponentLink1Description: Datasheet; ComponentLink2URL: N.A.; ComponentLink2Description: Supplier link; HelpURL: N.A.; LatestRevisionDate: 2014-11-13; Published: 2014-11-13; Footprint Doc: 0201; Value: 330k; Supplier 1: N.A.; Supplier Part Number 1: N.A.; Supplier 2: N.A.; Supplier Part Number 2: N.A.; Artikkelnr Noca: N.A.; Part number Norautron: N.A.
footprint RESC0603X03L_C
pins: 1, 2

## R0201-N.C.
designator R?, comment N.C.
Not mounted; Part Number: R0201-N.C.; Manufacturer: N.A.; Part number NEMS: 100100107; Note: Chip Res; Assembly: Not mounted; Pad Count: 2; Component Status: Active; Manufacturer Part Number: N.A.; ComponentLink1URL: N.A.; ComponentLink1Description: Datasheet; ComponentLink2URL: N.A.; ComponentLink2Description: Supplier link; HelpURL: N.A.; Footprint Doc: 0201; LatestRevisionDate: 2014-11-13; Published: 2014-11-13; Value: N.C.; Supplier 1: N.A.; Supplier Part Number 1: N.A.; Supplier 2: N.A.; Supplier Part Number 2: N.A.; Artikkelnr Noca: N.A.; Part number IPS: N.A.; PartId: 100100107; Component Class: Resistors; Author: rsk; Part number Norautron: N.A.
footprint RESC0603X03L_C_NC
pins: 1, 2

## R0402-0R1
designator R?, comment 0.1R
Resistor, ±1%, 0.063W; Part Number: R0402-0R1; Manufacturer: N.A.; Part number IPS: 00000001795; Part number NEMS: 100100111; Note: Chip Res 1%; Pad Count: 2; Component Status: Active; Manufacturer Part Number: N.A.; ComponentLink1URL: N.A.; ComponentLink1Description: Datasheet; ComponentLink2URL: N.A.; ComponentLink2Description: Supplier link; HelpURL: N.A.; Footprint Doc: 0402; LatestRevisionDate: 2012-06-22; Published: 2012-06-22; Value: 0.1R; Supplier 1: Digi-Key; Supplier Part Number 1: 311-.10PDKR-ND; Supplier 2: N.A.; Supplier Part Number 2: N.A.; Artikkelnr Noca: N.A.; Author: rsk; Component Class: Resistors; PartId: 100100111; Part number Norautron: N.A.
footprint RESC1005X04L
pins: 1, 2

## R0603-0r
designator Z?, comment 0R
Resistor, ±5%, 0.1W; Part Number: R0603-0R; Manufacturer: N.A.; Part number NEMS: 100100283; Pad Count: 2; Note: Chip Res 5%; Artikkelnr Noca: 27069000; Component Status: Active; PartId: 100100283; Component Class: Resistors; Author: rsk; Manufacturer Part Number: N.A.; ComponentLink1URL: N.A.; ComponentLink1Description: Datasheet; ComponentLink2URL: N.A.; ComponentLink2Description: Supplier link; HelpURL: N.A.; Footprint Doc: 0603; LatestRevisionDate: 2011-12-14; Published: 2009-05-08; Value: 0R; Supplier 1: N.A.; Supplier Part Number 1: N.A.; Supplier 2: N.A.; Supplier Part Number 2: N.A.; Part number IPS: N.A.; Part number Norautron: N.A.
footprint RESC1608X06L (Footprint not found)
footprint C1608X06L-C1005X04M
pins: 1, 2

## Res
designator R?, comment value 0R  (hidden comment: 10K)
LCSC PART#: C21190
footprint 0603_R
footprint 0805_R
footprint 1206_R
footprint 2010_Res
footprint 0402_R
footprint 2512_R
pins: 1, 2

## Res3
designator R?, comment NC 33K
YAGEO - RC0603FR-0733KL - Surface Mount Thick Film Resistor, RC Series, 33 kohm, 100 mW, - 1%, 50 V, 0603 [1608 Metric] RoHS Compliant: Yes; Resistance: 33kR; Temperature Coefficient: 100ppm/°C; Voltage Rating (DC): 50V; Power Rating: 100mW; ComponentLink1URL: https://datasheet.ciiva.com/11819/0900766b80c66297-11819477.pdf?src-supplier=RSComponents; ComponentLink1Description: https://datasheet.ciiva.com/11819/0900766b80c66297-11819477.pdf?src-supplier=RSComponents; ComponentLink2URL: https://datasheet.ciiva.com/12666/pyu-rc0402-51-rohs-l-6-r-12666741.pdf?src-supplier=Mouser; ComponentLink2Description: https://datasheet.ciiva.com/12666/pyu-rc0402-51-rohs-l-6-r-12666741.pdf?src-supplier=Mouser; ComponentLink3URL: https://datasheet.ciiva.com/17063/pyu-rc0402-51-rohs-l-6-r-17063193.pdf?src-supplier=Future+Electronics; ComponentLink3Description: https://datasheet.ciiva.com/17063/pyu-rc0402-51-rohs-l-6-r-17063193.pdf?src-supplier=Future+Electronics; ComponentLink4URL: https://datasheet.ciiva.com/22747/1018594-22747513.pdf?src-supplier=Element14; ComponentLink4Description: https://datasheet.ciiva.com/22747/1018594-22747513.pdf?src-supplier=Element14; ComponentLink5URL: https://datasheet.ciiva.com/7849/1018594-7849869.pdf?src-supplier=Element14; ComponentLink5Description: https://datasheet.ciiva.com/7849/1018594-7849869.pdf?src-supplier=Element14; ComponentLink6URL: https://datasheet.ciiva.com/7983/1018594-7983502.pdf?src-supplier=Element14; ComponentLink6Description: https://datasheet.ciiva.com/7983/1018594-7983502.pdf?src-supplier=Element14; ComponentLink7URL: https://datasheet.ciiva.com/7849/1018594-7849871.pdf?src-supplier=Element14; ComponentLink7Description: https://datasheet.ciiva.com/7849/1018594-7849871.pdf?src-supplier=Element14; ComponentLink8URL: https://datasheet.ciiva.com/11808/0900766b80c66297-11808195.pdf?src-supplier=RSComponents; ComponentLink8Description: https://datasheet.ciiva.com/11808/0900766b80c66297-11808195.pdf?src-supplier=RSComponents; ComponentLink9URL: https://datasheet.ciiva.com/2452/pyu-rc0402-51-rohs-l-6-2452608.pdf?src-supplier=Digi-Key; ComponentLink9Description: https://datasheet.ciiva.com/2452/pyu-rc0402-51-rohs-l-6-2452608.pdf?src-supplier=Digi-Key; ComponentLink10URL: https://datasheet.ciiva.com/2452/pyu-r-int-thick-7-2452609.pdf?src-supplier=Digi-Key; ComponentLink10Description: https://datasheet.ciiva.com/2452/pyu-r-int-thick-7-2452609.pdf?src-supplier=Digi-Key; ComponentLink11URL: https://datasheet.ciiva.com/2452/pyu-r-int-thick-7-2452610.pdf?src-supplier=Digi-Key; ComponentLink11Description: https://datasheet.ciiva.com/2452/pyu-r-int-thick-7-2452610.pdf?src-supplier=Digi-Key; ComponentLink12URL: https://datasheet.ciiva.com/28386/pyu-rc0402-51-rohs-l-6-28386633.pdf?src-supplier=Avnet+Europe; ComponentLink12Description: https://datasheet.ciiva.com/28386/pyu-rc0402-51-rohs-l-6-28386633.pdf?src-supplier=Avnet+Europe; ComponentLink13URL: https://datasheet.ciiva.com/22747/1018594-22747515.pdf?src-supplier=Element14; ComponentLink13Description: https://datasheet.ciiva.com/22747/1018594-22747515.pdf?src-supplier=Element14; ComponentLink14URL: https://datasheet.ciiva.com/7983/1018594-7983535.pdf?src-supplier=Element14; ComponentLink14Description: https://datasheet.ciiva.com/7983/1018594-7983535.pdf?src-supplier=Element14; ComponentLink15URL: https://datasheet.ciiva.com/8896/pyu-rc0402-51-rohs-l-6-8896201.pdf?src-supplier=Avnet; ComponentLink15Description: https://datasheet.ciiva.com/8896/pyu-rc0402-51-rohs-l-6-8896201.pdf?src-supplier=Avnet; ComponentLink16URL: https://datasheet.ciiva.com/15189/getdatasheetpartid-326379-15189533.pdf?src-supplier=Verical; ComponentLink16Description: https://datasheet.ciiva.com/15189/getdatasheetpartid-326379-15189533.pdf?src-supplier=Verical; Supplier 1: Digi-Key; Supplier Part Number 1: 311-33.0KHRCT-ND; Manufacturer: Yageo; Manufacturer Part Number: RC0603FR-0733KL; RoHS: Yes; Category: Chip SMD Resistors; Stock 1: 196304; Pricing 1: 1=0,10000, 10=0,02400, 100=0,00970, 1000=0,00436, 2500=0,00378 (USD); Case/Package: 0603; Number of Pins: 2; Case Code (Imperial): 0603; Case Code (Metric): 1608; Size Code: 0603; Min Operating Temperature: -55°C; Max Operating Temperature: 155°C; Tolerance: 1%; Packaging: Tape and Reel; Resistor Type: Thick Film; Voltage Rating: 50V; Package Quantity: 1; Termination: SMD/SMT; Number of Terminations: 2; Max Power Dissipation: 100mW; Features: Moisture Resistant; Series: RC; Resistance Tolerance: 1%; Construction: Rectangular; Length: 0.063inch; Width: 0.031inch; Height: 0.022inch; Depth: 0.8mm; REACH SVHC: No SVHC; Lead Free: Lead Free; Military Standard: Not; RoHS Compliant: Yes; ComponentLink17URL: https://datasheet.ciiva.com/2454/pyu-r-int-thick-7-2454009.pdf?src-supplier=Digi-Key; ComponentLink17Description: https://datasheet.ciiva.com/2454/pyu-r-int-thick-7-2454009.pdf?src-supplier=Digi-Key; ComponentLink18URL: https://datasheet.ciiva.com/2454/pyu-r-int-thick-7-2454010.pdf?src-supplier=Digi-Key; ComponentLink18Description: https://datasheet.ciiva.com/2454/pyu-r-int-thick-7-2454010.pdf?src-supplier=Digi-Key; ComponentLink19URL: https://datasheet.ciiva.com/15189/getdatasheetpartid-353493-15189706.pdf?src-supplier=Verical; ComponentLink19Description: https://datasheet.ciiva.com/15189/getdatasheetpartid-353493-15189706.pdf?src-supplier=Verical; ComponentLink20URL: https://datasheet.ciiva.com/2454/pyu-r-int-thick-7-2454011.pdf?src-supplier=Digi-Key; ComponentLink20Description: https://datasheet.ciiva.com/2454/pyu-r-int-thick-7-2454011.pdf?src-supplier=Digi-Key; ComponentLink21URL: https://datasheet.ciiva.com/7746/443971-7746332.pdf?src-supplier=Element14; ComponentLink21Description: https://datasheet.ciiva.com/7746/443971-7746332.pdf?src-supplier=Element14; ComponentLink22URL: https://datasheet.ciiva.com/7746/443971-7746333.pdf?src-supplier=Element14; ComponentLink22Description: https://datasheet.ciiva.com/7746/443971-7746333.pdf?src-supplier=Element14; ComponentLink23URL: https://datasheet.ciiva.com/46395/443971-46395005.pdf?src-supplier=Element14; ComponentLink23Description: https://datasheet.ciiva.com/46395/443971-46395005.pdf?src-supplier=Element14
simulation model RESISTOR (Resistor)
signal-integrity model Res
footprint R 0603(1608)
pins: 1, 2

## Res3_1
designator R?, comment NC 10K
Res General Purpose Thick Film 0603 10K Ohm 1% 1/10W ±100ppm/°C Molded SMD Paper T/R; Manufacturer: Yageo; Manufacturer Part Number: RC0603FR-0710KL; Resistance: 10kR; Voltage Rating (DC): 50V; Power Rating: 100mW; Voltage Rating: 75V; ComponentLink1URL: https://datasheet.ciiva.com/11819/0900766b80c66297-11819477.pdf?src-supplier=RSComponents; ComponentLink1Description: https://datasheet.ciiva.com/11819/0900766b80c66297-11819477.pdf?src-supplier=RSComponents; ComponentLink2URL: https://datasheet.ciiva.com/12666/pyu-rc0402-51-rohs-l-6-r-12666741.pdf?src-supplier=Mouser; ComponentLink2Description: https://datasheet.ciiva.com/12666/pyu-rc0402-51-rohs-l-6-r-12666741.pdf?src-supplier=Mouser; ComponentLink3URL: https://datasheet.ciiva.com/17063/pyu-rc0402-51-rohs-l-6-r-17063193.pdf?src-supplier=Future+Electronics; ComponentLink3Description: https://datasheet.ciiva.com/17063/pyu-rc0402-51-rohs-l-6-r-17063193.pdf?src-supplier=Future+Electronics; ComponentLink4URL: https://datasheet.ciiva.com/22747/1018594-22747513.pdf?src-supplier=Element14; ComponentLink4Description: https://datasheet.ciiva.com/22747/1018594-22747513.pdf?src-supplier=Element14; ComponentLink5URL: https://datasheet.ciiva.com/7849/1018594-7849869.pdf?src-supplier=Element14; ComponentLink5Description: https://datasheet.ciiva.com/7849/1018594-7849869.pdf?src-supplier=Element14; ComponentLink6URL: https://datasheet.ciiva.com/7983/1018594-7983502.pdf?src-supplier=Element14; ComponentLink6Description: https://datasheet.ciiva.com/7983/1018594-7983502.pdf?src-supplier=Element14; ComponentLink7URL: https://datasheet.ciiva.com/7849/1018594-7849871.pdf?src-supplier=Element14; ComponentLink7Description: https://datasheet.ciiva.com/7849/1018594-7849871.pdf?src-supplier=Element14; ComponentLink8URL: https://datasheet.ciiva.com/11808/0900766b80c66297-11808195.pdf?src-supplier=RSComponents; ComponentLink8Description: https://datasheet.ciiva.com/11808/0900766b80c66297-11808195.pdf?src-supplier=RSComponents; ComponentLink9URL: https://datasheet.ciiva.com/2452/pyu-rc0402-51-rohs-l-6-2452608.pdf?src-supplier=Digi-Key; ComponentLink9Description: https://datasheet.ciiva.com/2452/pyu-rc0402-51-rohs-l-6-2452608.pdf?src-supplier=Digi-Key; ComponentLink10URL: https://datasheet.ciiva.com/2452/pyu-r-int-thick-7-2452609.pdf?src-supplier=Digi-Key; ComponentLink10Description: https://datasheet.ciiva.com/2452/pyu-r-int-thick-7-2452609.pdf?src-supplier=Digi-Key; ComponentLink11URL: https://datasheet.ciiva.com/2452/pyu-r-int-thick-7-2452610.pdf?src-supplier=Digi-Key; ComponentLink11Description: https://datasheet.ciiva.com/2452/pyu-r-int-thick-7-2452610.pdf?src-supplier=Digi-Key; ComponentLink12URL: https://datasheet.ciiva.com/28386/pyu-rc0402-51-rohs-l-6-28386633.pdf?src-supplier=Avnet+Europe; ComponentLink12Description: https://datasheet.ciiva.com/28386/pyu-rc0402-51-rohs-l-6-28386633.pdf?src-supplier=Avnet+Europe; ComponentLink13URL: https://datasheet.ciiva.com/22747/1018594-22747515.pdf?src-supplier=Element14; ComponentLink13Description: https://datasheet.ciiva.com/22747/1018594-22747515.pdf?src-supplier=Element14; ComponentLink14URL: https://datasheet.ciiva.com/7983/1018594-7983535.pdf?src-supplier=Element14; ComponentLink14Description: https://datasheet.ciiva.com/7983/1018594-7983535.pdf?src-supplier=Element14; ComponentLink15URL: https://datasheet.ciiva.com/8896/pyu-rc0402-51-rohs-l-6-8896201.pdf?src-supplier=Avnet; ComponentLink15Description: https://datasheet.ciiva.com/8896/pyu-rc0402-51-rohs-l-6-8896201.pdf?src-supplier=Avnet; ComponentLink16URL: https://datasheet.ciiva.com/15189/getdatasheetpartid-326379-15189533.pdf?src-supplier=Verical; ComponentLink16Description: https://datasheet.ciiva.com/15189/getdatasheetpartid-326379-15189533.pdf?src-supplier=Verical; Supplier 1: Digi-Key; Supplier Part Number 1: 311-10.0KHRCT-ND; RoHS: Yes; Category: Chip SMD Resistors; Stock 1: 31088675; Pricing 1: 1=0,10000, 10=0,02400, 100=0,00970, 1000=0,00436, 2500=0,00378 (USD); Case/Package: 0603; Number of Pins: 2; Case Code (Imperial): 0603; Case Code (Metric): 1608; Size Code: 0603; Weight: 7.1E-05oz; Min Operating Temperature: -55°C; Max Operating Temperature: 155°C; Packaging: Tape and Reel; Tolerance: 1%; Resistor Type: Thick Film; Temperature Coefficient: 100ppm/°C; Termination: SMD/SMT; Features: Moisture Resistant; Series: RC; Max Power Dissipation: 100mW; Number of Terminations: 2; Resistance Tolerance: 1%; Construction: Rectangular; Length: 1.6mm; Width: 0.8mm; Height: 0.45mm; Depth: 0.8mm; Lead Pitch: 0.3mm; REACH SVHC: Unknown; Lead Free: Lead Free; Military Standard: Not; RoHS Compliant: Yes
simulation model RESISTOR (Resistor)
signal-integrity model Res
footprint SMR0603
footprint R 0603(1608)
pins: 1, 2

## Res3_2
designator R?, comment 680
YAGEO - RC0603FR-07680RL - SMD Chip Resistor, 0603 [1608 Metric], 680 ohm, RC Series, 50 V, Thick Film, 100 mW; Resistance: 680R; Tolerance: 1%; Temperature Coefficient: 100ppm/°C; Voltage Rating (DC): 50V; Power Rating: 100mW; ComponentLink1URL: https://datasheet.ciiva.com/11819/0900766b80c66297-11819477.pdf?src-supplier=RSComponents; ComponentLink1Description: https://datasheet.ciiva.com/11819/0900766b80c66297-11819477.pdf?src-supplier=RSComponents; ComponentLink2URL: https://datasheet.ciiva.com/12666/pyu-rc0402-51-rohs-l-6-r-12666741.pdf?src-supplier=Mouser; ComponentLink2Description: https://datasheet.ciiva.com/12666/pyu-rc0402-51-rohs-l-6-r-12666741.pdf?src-supplier=Mouser; ComponentLink3URL: https://datasheet.ciiva.com/17063/pyu-rc0402-51-rohs-l-6-r-17063193.pdf?src-supplier=Future+Electronics; ComponentLink3Description: https://datasheet.ciiva.com/17063/pyu-rc0402-51-rohs-l-6-r-17063193.pdf?src-supplier=Future+Electronics; ComponentLink4URL: https://datasheet.ciiva.com/22747/1018594-22747513.pdf?src-supplier=Element14; ComponentLink4Description: https://datasheet.ciiva.com/22747/1018594-22747513.pdf?src-supplier=Element14; ComponentLink5URL: https://datasheet.ciiva.com/7849/1018594-7849869.pdf?src-supplier=Element14; ComponentLink5Description: https://datasheet.ciiva.com/7849/1018594-7849869.pdf?src-supplier=Element14; ComponentLink6URL: https://datasheet.ciiva.com/7983/1018594-7983502.pdf?src-supplier=Element14; ComponentLink6Description: https://datasheet.ciiva.com/7983/1018594-7983502.pdf?src-supplier=Element14; ComponentLink7URL: https://datasheet.ciiva.com/7849/1018594-7849871.pdf?src-supplier=Element14; ComponentLink7Description: https://datasheet.ciiva.com/7849/1018594-7849871.pdf?src-supplier=Element14; ComponentLink8URL: https://datasheet.ciiva.com/11808/0900766b80c66297-11808195.pdf?src-supplier=RSComponents; ComponentLink8Description: https://datasheet.ciiva.com/11808/0900766b80c66297-11808195.pdf?src-supplier=RSComponents; ComponentLink9URL: https://datasheet.ciiva.com/2452/pyu-rc0402-51-rohs-l-6-2452608.pdf?src-supplier=Digi-Key; ComponentLink9Description: https://datasheet.ciiva.com/2452/pyu-rc0402-51-rohs-l-6-2452608.pdf?src-supplier=Digi-Key; ComponentLink10URL: https://datasheet.ciiva.com/2452/pyu-r-int-thick-7-2452609.pdf?src-supplier=Digi-Key; ComponentLink10Description: https://datasheet.ciiva.com/2452/pyu-r-int-thick-7-2452609.pdf?src-supplier=Digi-Key; ComponentLink11URL: https://datasheet.ciiva.com/2452/pyu-r-int-thick-7-2452610.pdf?src-supplier=Digi-Key; ComponentLink11Description: https://datasheet.ciiva.com/2452/pyu-r-int-thick-7-2452610.pdf?src-supplier=Digi-Key; ComponentLink12URL: https://datasheet.ciiva.com/28386/pyu-rc0402-51-rohs-l-6-28386633.pdf?src-supplier=Avnet+Europe; ComponentLink12Description: https://datasheet.ciiva.com/28386/pyu-rc0402-51-rohs-l-6-28386633.pdf?src-supplier=Avnet+Europe; ComponentLink13URL: https://datasheet.ciiva.com/22747/1018594-22747515.pdf?src-supplier=Element14; ComponentLink13Description: https://datasheet.ciiva.com/22747/1018594-22747515.pdf?src-supplier=Element14; ComponentLink14URL: https://datasheet.ciiva.com/7983/1018594-7983535.pdf?src-supplier=Element14; ComponentLink14Description: https://datasheet.ciiva.com/7983/1018594-7983535.pdf?src-supplier=Element14; ComponentLink15URL: https://datasheet.ciiva.com/8896/pyu-rc0402-51-rohs-l-6-8896201.pdf?src-supplier=Avnet; ComponentLink15Description: https://datasheet.ciiva.com/8896/pyu-rc0402-51-rohs-l-6-8896201.pdf?src-supplier=Avnet; ComponentLink16URL: https://datasheet.ciiva.com/15189/getdatasheetpartid-326379-15189533.pdf?src-supplier=Verical; ComponentLink16Description: https://datasheet.ciiva.com/15189/getdatasheetpartid-326379-15189533.pdf?src-supplier=Verical; Supplier 1: Digi-Key; Supplier Part Number 1: 311-680HRCT-ND; Manufacturer: Yageo; Manufacturer Part Number: RC0603FR-07680RL; RoHS: Yes; Category: Chip SMD Resistors; Stock 1: 771858; Pricing 1: 1=0,10000, 10=0,02400, 100=0,00970, 1000=0,00436, 2500=0,00378 (USD); Case/Package: 0603; Number of Pins: 2; Case Code (Imperial): 0603; Case Code (Metric): 1608; Size Code: 0603; Min Operating Temperature: -55°C; Max Operating Temperature: 155°C; Resistor Type: Thick Film; Packaging: Tape and Reel; Number of Terminations: 2; Voltage Rating: 50V; Package Quantity: 1; Termination: SMD/SMT; Max Power Dissipation: 100mW; Features: Moisture Resistant; Series: RC; Resistance Tolerance: 1%; Construction: Rectangular; Length: 1.6mm; Width: 0.8mm; Height: 0.022inch; Depth: 0.8mm; REACH SVHC: No SVHC; Lead Free: Lead Free; Military Standard: Not; RoHS Compliant: Yes; ComponentLink17URL: https://datasheet.ciiva.com/7746/443971-7746389.pdf?src-supplier=Element14; ComponentLink17Description: https://datasheet.ciiva.com/7746/443971-7746389.pdf?src-supplier=Element14; ComponentLink18URL: https://datasheet.ciiva.com/46412/443971-46412854.pdf?src-supplier=Element14; ComponentLink18Description: https://datasheet.ciiva.com/46412/443971-46412854.pdf?src-supplier=Element14; ComponentLink19URL: https://datasheet.ciiva.com/2553/pyu-r-int-thick-7-2553545.pdf?src-supplier=Digi-Key; ComponentLink19Description: https://datasheet.ciiva.com/2553/pyu-r-int-thick-7-2553545.pdf?src-supplier=Digi-Key; ComponentLink20URL: https://datasheet.ciiva.com/2553/pyu-r-int-thick-7-2553546.pdf?src-supplier=Digi-Key; ComponentLink20Description: https://datasheet.ciiva.com/2553/pyu-r-int-thick-7-2553546.pdf?src-supplier=Digi-Key; ComponentLink21URL: https://datasheet.ciiva.com/2553/pyu-r-int-thick-7-2553547.pdf?src-supplier=Digi-Key; ComponentLink21Description: https://datasheet.ciiva.com/2553/pyu-r-int-thick-7-2553547.pdf?src-supplier=Digi-Key
simulation model RESISTOR (Resistor)
signal-integrity model Res
footprint SMR0603
footprint R 0603(1608)
pins: 1, 2